# EAGLE library part RCWL-0530-MAX30100 (library esp-wroom-32)
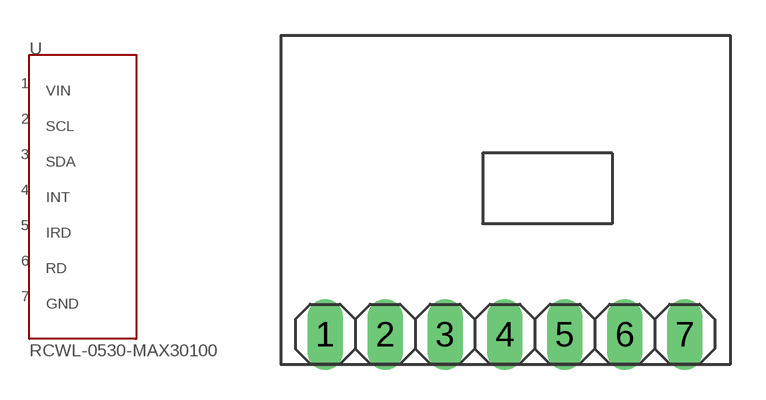
[diagram p2: symbol with the pads of RCWL-0530; footprint RCWL-0530]

Designator prefix -

## RCWL-0530-MAX30100  [RCWL-0530]
1  VIN
2  SCL
3  SDA
4  INT
5  IRD
6  RD
7  GND

## Footprint RCWL-0530 (pad centres in mm)
drill 1 long: 1 -7.62,-5.73; 2 -5.08,-5.73; 3 -2.54,-5.73; 4 0,-5.73; 5 2.54,-5.73; 6 5.08,-5.73; 7 7.62,-5.73